# Altium footprint library QFN40P300X300X80-21N-D.PcbLib: 1 footprints
Each footprint in its own frame and in the unit in brackets; x right, y up, seen from the top. Pads: shape width x height; smd on the part's side, far side on the other; paste and mask are expansions set on the pad; w line width, h text height; cw(c..) or ccw(c..) is an arc to the next point about the centre after c.
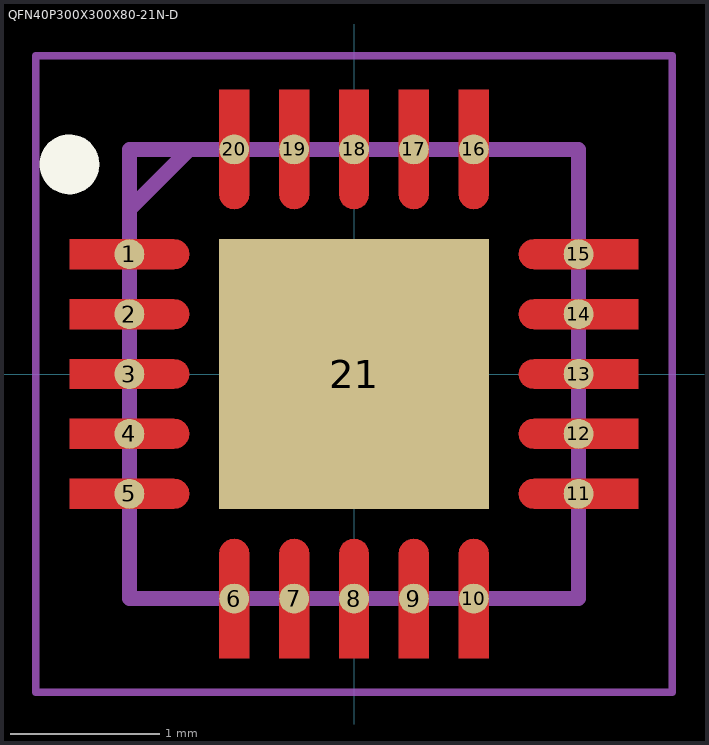
[diagram p0: the footprint, top view; thin cyan lines are the x and y axes]

## QFN40P300X300X80-21N-D [mm]
pads (21):
  round 0.2 smd: 1(-1.5,0.8) 2(-1.5,0.4) 3(-1.5,0) 4(-1.5,-0.4) 5(-1.5,-0.8) 6(-0.8,-1.5) 7(-0.4,-1.5) 8(0,-1.5) 9(0.4,-1.5) 10(0.8,-1.5) 11(1.5,-0.8) 12(1.5,-0.4) 13(1.5,0) 14(1.5,0.4) 15(1.5,0.8) 16(0.8,1.5) 17(0.4,1.5) 18(0,1.5) 19(-0.4,1.5) 20(-0.8,1.5)
  rect 1.8x1.8 smd: 21(0,0)
L1-Top Layer:
  region: -1.9,0.9 -1.2,0.9 -1.174,0.897 -1.15,0.887 -1.129,0.871 -1.113,0.85 -1.103,0.826 -1.1,0.8 -1.103,0.774 -1.113,0.75 -1.129,0.729 -1.15,0.713 -1.174,0.703 -1.2,0.7 -1.9,0.7
  region: -1.9,0.5 -1.2,0.5 -1.174,0.497 -1.15,0.487 -1.129,0.471 -1.113,0.45 -1.103,0.426 -1.1,0.4 -1.103,0.374 -1.113,0.35 -1.129,0.329 -1.15,0.313 -1.174,0.303 -1.2,0.3 -1.9,0.3
  region: -1.9,0.1 -1.2,0.1 -1.174,0.097 -1.15,0.087 -1.129,0.071 -1.113,0.05 -1.103,0.026 -1.1,0 -1.103,-0.026 -1.113,-0.05 -1.129,-0.071 -1.15,-0.087 -1.174,-0.097 -1.2,-0.1 -1.9,-0.1
  region: -1.9,-0.3 -1.2,-0.3 -1.174,-0.303 -1.15,-0.313 -1.129,-0.329 -1.113,-0.35 -1.103,-0.374 -1.1,-0.4 -1.103,-0.426 -1.113,-0.45 -1.129,-0.471 -1.15,-0.487 -1.174,-0.497 -1.2,-0.5 -1.9,-0.5
  region: -1.9,-0.7 -1.2,-0.7 -1.174,-0.703 -1.15,-0.713 -1.129,-0.729 -1.113,-0.75 -1.103,-0.774 -1.1,-0.8 -1.103,-0.826 -1.113,-0.85 -1.129,-0.871 -1.15,-0.887 -1.174,-0.897 -1.2,-0.9 -1.9,-0.9
  region: -0.9,-1.9 -0.9,-1.2 -0.897,-1.174 -0.887,-1.15 -0.871,-1.129 -0.85,-1.113 -0.826,-1.103 -0.8,-1.1 -0.774,-1.103 -0.75,-1.113 -0.729,-1.129 -0.713,-1.15 -0.703,-1.174 -0.7,-1.2 -0.7,-1.9
  region: -0.5,-1.9 -0.5,-1.2 -0.497,-1.174 -0.487,-1.15 -0.471,-1.129 -0.45,-1.113 -0.426,-1.103 -0.4,-1.1 -0.374,-1.103 -0.35,-1.113 -0.329,-1.129 -0.313,-1.15 -0.303,-1.174 -0.3,-1.2 -0.3,-1.9
  region: -0.1,-1.9 -0.1,-1.2 -0.097,-1.174 -0.087,-1.15 -0.071,-1.129 -0.05,-1.113 -0.026,-1.103 0,-1.1 0.026,-1.103 0.05,-1.113 0.071,-1.129 0.087,-1.15 0.097,-1.174 0.1,-1.2 0.1,-1.9
  region: 0.3,-1.9 0.3,-1.2 0.303,-1.174 0.313,-1.15 0.329,-1.129 0.35,-1.113 0.374,-1.103 0.4,-1.1 0.426,-1.103 0.45,-1.113 0.471,-1.129 0.487,-1.15 0.497,-1.174 0.5,-1.2 0.5,-1.9
  region: 0.7,-1.9 0.7,-1.2 0.703,-1.174 0.713,-1.15 0.729,-1.129 0.75,-1.113 0.774,-1.103 0.8,-1.1 0.826,-1.103 0.85,-1.113 0.871,-1.129 0.887,-1.15 0.897,-1.174 0.9,-1.2 0.9,-1.9
  region: 1.9,-0.9 1.2,-0.9 1.174,-0.897 1.15,-0.887 1.129,-0.871 1.113,-0.85 1.103,-0.826 1.1,-0.8 1.103,-0.774 1.113,-0.75 1.129,-0.729 1.15,-0.713 1.174,-0.703 1.2,-0.7 1.9,-0.7
  region: 1.9,-0.5 1.2,-0.5 1.174,-0.497 1.15,-0.487 1.129,-0.471 1.113,-0.45 1.103,-0.426 1.1,-0.4 1.103,-0.374 1.113,-0.35 1.129,-0.329 1.15,-0.313 1.174,-0.303 1.2,-0.3 1.9,-0.3
  region: 1.9,-0.1 1.2,-0.1 1.174,-0.097 1.15,-0.087 1.129,-0.071 1.113,-0.05 1.103,-0.026 1.1,0 1.103,0.026 1.113,0.05 1.129,0.071 1.15,0.087 1.174,0.097 1.2,0.1 1.9,0.1
  region: 1.9,0.3 1.2,0.3 1.174,0.303 1.15,0.313 1.129,0.329 1.113,0.35 1.103,0.374 1.1,0.4 1.103,0.426 1.113,0.45 1.129,0.471 1.15,0.487 1.174,0.497 1.2,0.5 1.9,0.5
  region: 1.9,0.7 1.2,0.7 1.174,0.703 1.15,0.713 1.129,0.729 1.113,0.75 1.103,0.774 1.1,0.8 1.103,0.826 1.113,0.85 1.129,0.871 1.15,0.887 1.174,0.897 1.2,0.9 1.9,0.9
  region: 0.9,1.9 0.9,1.2 0.897,1.174 0.887,1.15 0.871,1.129 0.85,1.113 0.826,1.103 0.8,1.1 0.774,1.103 0.75,1.113 0.729,1.129 0.713,1.15 0.703,1.174 0.7,1.2 0.7,1.9
  region: 0.5,1.9 0.5,1.2 0.497,1.174 0.487,1.15 0.471,1.129 0.45,1.113 0.426,1.103 0.4,1.1 0.374,1.103 0.35,1.113 0.329,1.129 0.313,1.15 0.303,1.174 0.3,1.2 0.3,1.9
  region: 0.1,1.9 0.1,1.2 0.097,1.174 0.087,1.15 0.071,1.129 0.05,1.113 0.026,1.103 0,1.1 -0.026,1.103 -0.05,1.113 -0.071,1.129 -0.087,1.15 -0.097,1.174 -0.1,1.2 -0.1,1.9
  region: -0.3,1.9 -0.3,1.2 -0.303,1.174 -0.313,1.15 -0.329,1.129 -0.35,1.113 -0.374,1.103 -0.4,1.1 -0.426,1.103 -0.45,1.113 -0.471,1.129 -0.487,1.15 -0.497,1.174 -0.5,1.2 -0.5,1.9
  region: -0.7,1.9 -0.7,1.2 -0.703,1.174 -0.713,1.15 -0.729,1.129 -0.75,1.113 -0.774,1.103 -0.8,1.1 -0.826,1.103 -0.85,1.113 -0.871,1.129 -0.887,1.15 -0.897,1.174 -0.9,1.2 -0.9,1.9
Top Overlay:
  circle w0.2: c-1.9,1.4 r0.1
Mechanical 15:
  lines w0.1: -1.5,1.1 -1.1,1.5 ; -1.5,-1.5 1.5,-1.5 1.5,1.5 -1.5,1.5 -1.5,-1.5
Mechanical 20:
  lines w0.05: -2.125,-2.125 2.125,-2.125 2.125,2.125 -2.125,2.125 -2.125,-2.125
3D body "TPD8S300RUKR.stp": height 5.8, standoff -4.65, extent -10,-3.376 10,3.376